# EAGLE library part ESP-JTAG (library Coert-Vonk)
10-pin JTAG Header, shrouded header, 2-row, 2.54 pitch Specifications: Manufacturer: Molex Voltage rating: 250 VDC Current rating: 2.5 A Operating temperature: -55 - 120 C Mfr.#: 70246-1004 Mouser #: 538-70246-1004, about $1.19, data sheet <https://www.mouser.com/datasheet/2/276/0702461004_PCB_HEADERS-229930.pdf>
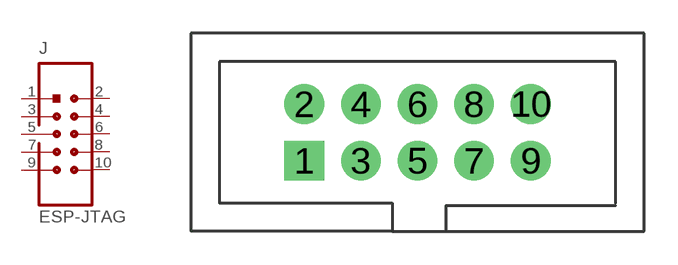
[diagram p15: symbol with the pads of 2X05_SHROUDED; footprint 2X05_SHROUDED]

Designator prefix J

## ESP-JTAG-2X05 (MANF: Molex; MANF#: 70246-1004; MOUSER#: 538-70246-1004)  [2X05_SHROUDED]
1  3V3  pwr
2  TMS  pas
3  GND  sup
4  TCK  pas
5  GND  sup
6  TDO  pas
7  GND  sup
8  TDI  pas
9  GND  sup
10  NC  pas

## Footprint 2X05_SHROUDED (pad centres in mm)
10-pin JTAG Header, shrouded header, 2-row, 2.54 pitch Specifications: Manufacturer: Molex Voltage rating: 250 VDC Current rating: 2.5 A Operating temperature: -55 - 120 C Mfr.#: 70246-1004 Mouser #: 538-70246-1004, about $1.19, data sheet <https://www.mouser.com/datasheet/2/276/0702461004_PCB_HEADERS-229930.pdf>
drill 1.016 pad 1.778 square: 1 -5.08,-1.27
drill 1.016 pad 1.778: 2 -5.08,1.27; 3 -2.54,-1.27; 4 -2.54,1.27; 5 0,-1.27; 6 0,1.27; 7 2.54,-1.27; 8 2.54,1.27; 9 5.08,-1.27; 10 5.08,1.27